# EAGLE library part SSQ-108-03 (library KVB-connectors)
ARDUINO SHIELD CONN RCPT .100" 8POS SNGL GOLD
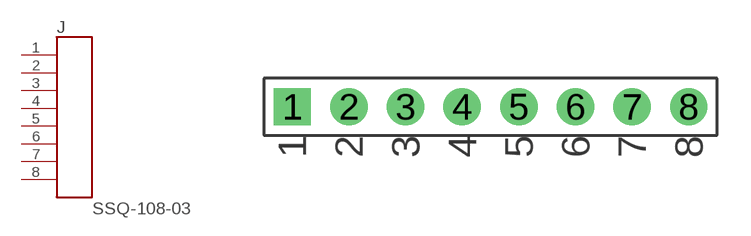
[diagram p28: symbol with the pads of SSQ-108-03; footprint SSQ-108-03]

Designator prefix J

## SSQ-108-03  [SSQ-108-03]
1  P$1
2  P$2
3  P$3
4  P$4
5  P$5
6  P$6
7  P$7
8  P$8

## Footprint SSQ-108-03 (pad centres in mm)
drill 1.016 pad 1.676 square: 1 -8.89,0
drill 1.016 pad 1.676: 2 -6.35,0; 3 -3.81,0; 4 -1.27,0; 5 1.27,0; 6 3.81,0; 7 6.35,0; 8 8.89,0